# EAGLE library part ADTT1-1 (library Neel)
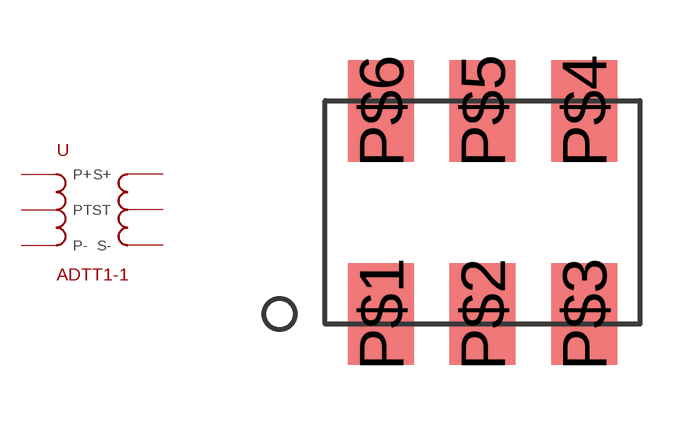
[diagram p40: symbol with the pads of MINI-CD542; footprint MINI-CD542]

Designator prefix -

## ADTT1-1  [MINI-CD542]
P$1  P+
P$2  PT
P$3  P-
P$4  S-
P$5  ST
P$6  S+

## Footprint MINI-CD542 (pad centres in mm)
smd 1.651 x 2.54: P$1 -2.54,-2.54; P$2 0,-2.54; P$3 2.54,-2.54; P$4 2.54,2.54; P$5 0,2.54; P$6 -2.54,2.54